# Altium footprint library Diod.PcbLib: 14 footprints
Each footprint in its own frame and in the unit in brackets; x right, y up, seen from the top. Pads: shape width x height; smd on the part's side, far side on the other; paste and mask are expansions set on the pad; w line width, h text height; cw(c..) or ccw(c..) is an arc to the next point about the centre after c.
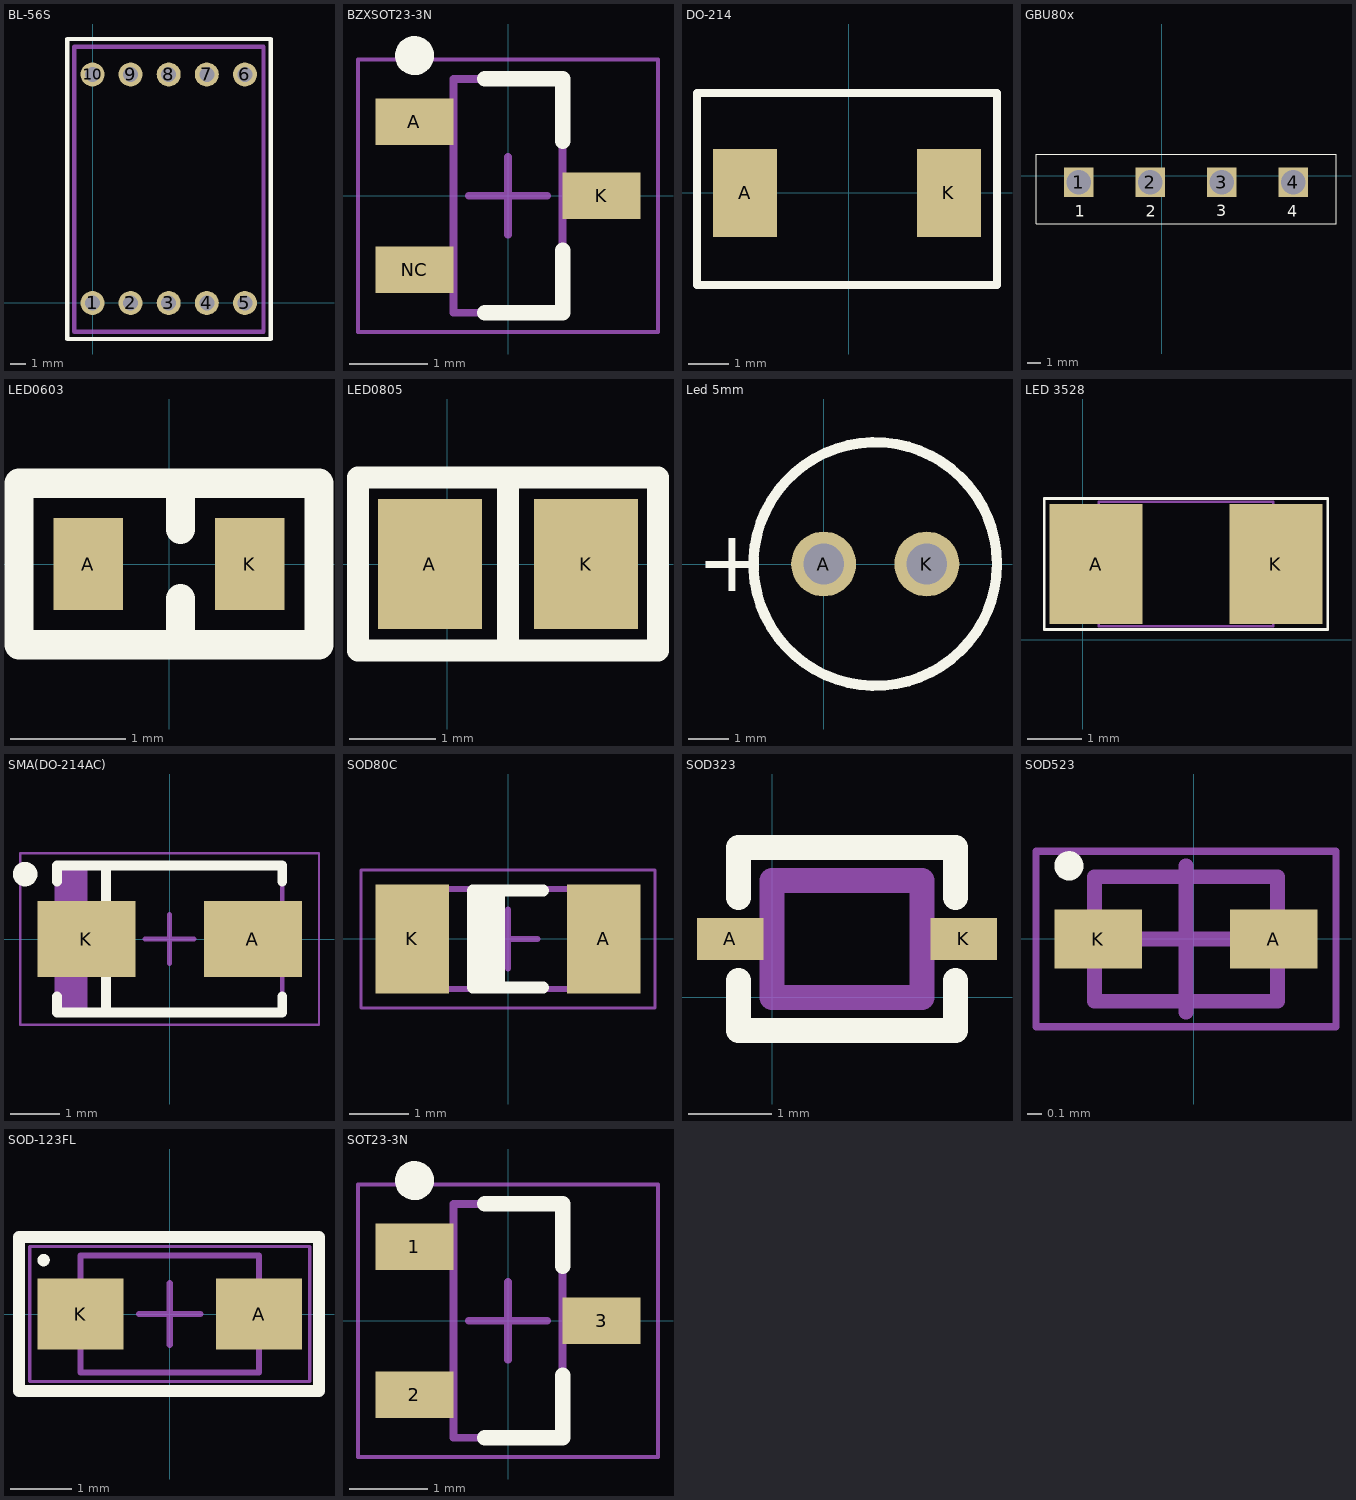
[diagram p0: the footprints below, top view; thin cyan lines are the x and y axes]

## BL-56S [mm]
pads (10):
  round 1.6 hole 1: 1(0,0) 2(2.54,0) 3(5.08,0) 4(7.62,0) 5(10.16,0) 6(10.16,15.24) 7(7.62,15.24) 8(5.08,15.24) 9(2.54,15.24) 10(0,15.24)
Top Overlay:
  lines w0.3: -1.7,-2.4 -1.7,17.6 11.9,17.6 11.9,-2.4 -1.7,-2.4
Mechanical 15:
  lines w0.3: -1.2,-1.9 11.4,-1.9 11.4,17.1 -1.2,17.1 -1.2,-1.9
3D body: height 8, standoff 0, extent -1.2,-1.9 11.4,17.1

## BZXSOT23-3N [mm] "SOT23, 3-Leads, Body 2,90x2,45mm, Pitch 0,95mm, IPC Medium Density"
height 1.1
pads (3):
  rect 1x0.6 smd: A(-1.2,0.95) K(1.2,0) NC(-1.2,-0.95)
Top Overlay:
  circle w0.25: c-1.2,1.8 r0.125
  lines w0.2: -0.3,-1.5 0.7,-1.5 0.7,-0.7 ; -0.3,1.5 0.7,1.5 0.7,0.7
Mechanical 13:
  lines w0.1: -0.7,-1.5 -0.7,1.5 0.7,1.5 0.7,-1.5 -0.7,-1.5
Mechanical 15:
  lines w0.05: -1.925,-1.75 -1.925,1.75 1.925,1.75 1.925,-1.75 -1.925,-1.75
  lines w0.1: -0.5,0 0.5,0 ; 0,-0.5 0,0.5
3D body "SOT95P245X110-3N.step": height 1.1, standoff 0, extent -1.3,-1.5 1.3,1.5

## DO-214 [mm]
pads (2):
  rect 1.6x2.2 smd: A(-2.6,0) K(2.5,0)
Top Overlay:
  lines w0.2: -3.8,-2.3 -3.8,1.3 -3.8,2.5 3.7,2.5 3.7,-2.3 -3.8,-2.3
3D body: height 2.5, standoff 0, extent -2.8,-2 2.8,2

## GBU80x [mm]
pads (4):
  rect 2.2x2.2 hole 1.84: 1(-6.2,-0.49) 2(-0.87,-0.49) 3(4.46,-0.49) 4(9.79,-0.49)
Top Overlay:
  lines w0.01: -9.4,-3.59 12.99,-3.59 12.99,1.61 -9.4,1.61 -9.4,-3.59
  text "3" at 4.04,-3.333 h1.5
  text "4" at 9.36,-3.35 h1.5
  text "2" at -1.191,-3.35 h1.5
  text "1" at -6.49,-3.35 h1.5

## LED0603 [mm]
pads (2):
  rect 0.6x0.8 smd: A(-0.7,0) K(0.7,0)
Top Overlay:
  lines w0.254: 0.1,-0.7 0.1,-0.3 ; 0.1,0.3 0.1,0.7 ; -1.3,-0.7 1.3,-0.7 1.3,0.7 -1.3,0.7 -1.3,-0.7

## LED0805 [mm]
pads (2):
  rect 1.2x1.5 smd: A(-0.2,0) K(1.6,0)
Top Overlay:
  lines w0.254: 0.7,-0.99 0.7,0.87 ; -1.03,-1 2.43,-1 2.43,1 -1.03,1 -1.03,-1
3D body: height 1.1, standoff 0, extent -0.2,-0.75 1.6,0.75

## Led 5mm [mm]
pads (2):
  round 1.6 hole 1: A(0,0) K(2.54,0)
Top Overlay:
  circle w0.254: c1.27,0 r3
  text "+" at -3.121,-0.675 h1.52
Mechanical 13:
3D body: height 7, standoff 6, extent -1.68,-2.95 4.22,2.95
3D body: height 14.6, standoff 7, extent -1.225,-2.5 3.775,2.5
3D body: height 6, standoff -2, extent -0.25,-0.25 0.25,0.25
3D body: height 6, standoff -2, extent 2.29,-0.25 2.79,0.25

## LED 3528 [mm]
pads (2):
  rect 1.7x2.2 smd mask+0.102: A(0.24,1.39) K(3.54,1.39)
Top Overlay:
  lines w0.05: -0.71,0.19 4.49,0.19 4.49,2.59 -0.71,2.59 -0.71,0.19
Mechanical 15:
  lines w0.05: 0.29,0.25 3.49,0.25 3.49,1.66 3.49,2.53 0.29,2.53 0.29,0.25
3D body: height 1.9, standoff 0, extent 0.29,0.25 3.49,2.53

## SMA(DO-214AC) [mm] "Molded Capacitor, 2-Leads, Body 4,30x2,61mm, IPC Medium Density"
height 2.62
pads (2):
  rect 2x1.55 smd: A(1.7,0) K(-1.7,0)
Top Overlay:
  circle w0.25: c-2.95,1.325 r0.125
  lines w0.2: -2.3,-1.175 -2.3,-1.5 2.3,-1.5 2.3,-1.175 ; -2.3,1.175 -2.3,1.5 2.3,1.5 2.3,1.175 ; -1.3,-1.4 -1.3,1.5
Mechanical 13:
  rectangle: -2.3,-1.46 -1.681,1.46
  lines w0.1: -2.3,-1.46 2.3,-1.46 2.3,1.46 -2.3,1.46 -2.3,-1.46
Mechanical 15:
  lines w0.05: -3.05,-1.75 3.05,-1.75 3.05,1.75 -3.05,1.75 -3.05,-1.75
  lines w0.1: -0.5,0 0.5,0 ; 0,-0.5 0,0.5
3D body "SMA(DO-214AC) .step": height 2.62, standoff 0, extent -2.52,-1.46 2.52,1.46

## SOD80C [mm] "MELF Diode, 2-Leads, Body 3,50x1,65mm, IPC Medium Density"
height 1.7
pads (2):
  rect 1.25x1.85 smd: A(1.625,0) K(-1.625,0)
Top Overlay:
  rectangle: -0.6,-0.825 -0.05,0.825
  lines w0.2: 0.6,-0.825 -0.6,-0.825 -0.6,0.825 0.6,0.825
Mechanical 13:
  lines w0.1: -1.85,-0.85 -1.85,0.85 1.85,0.85 1.85,-0.85 -1.85,-0.85
Mechanical 15:
  lines w0.05: -2.5,-1.175 -2.5,1.175 2.5,1.175 2.5,-1.175 -2.5,-1.175
  lines w0.1: -0.5,0 0.5,0 ; 0,-0.5 0,0.5
3D body "SOD80C.step": height 1.65, standoff 0, extent -1.75,-0.819 1.75,0.819

## SOD323 [mm]
pads (2):
  rect 0.8x0.5 smd: A(-0.5,0.7) K(2.3,0.7)
Top Overlay:
  lines w0.3: -0.4,0.2 -0.4,-0.4 2.2,-0.4 2.2,0.2 ; -0.4,1.2 -0.4,1.8 2.2,1.8 2.2,1.2
Mechanical 15:
  lines w0.3: 0,0 1.8,0 1.8,1.4 0,1.4 0,0
3D body: height 1, standoff 0, extent 0,0 1.8,1.4

## SOD523 [mm]
pads (2):
  rect 0.6x0.4 smd: A(0.546,-0.002) K(-0.654,-0.002)
Top Overlay:
  circle w0.1: c-0.854,0.498 r0.05
Mechanical 13:
  lines w0.1: -0.679,-0.427 -0.679,0.423 0.571,0.423 0.571,-0.427 -0.679,-0.427
Mechanical 15:
  lines w0.05: -1.079,-0.602 -1.079,0.598 0.971,0.598 0.971,-0.602 -1.079,-0.602
  lines w0.1: -0.554,-0.002 0.446,-0.002 ; -0.054,-0.502 -0.054,0.498
3D body "SOD523.step": height 0.65, standoff 0, extent -0.679,-0.427 0.571,0.423

## SOD-123FL [mm]
height 1.1
pads (2):
  rect 1.4x1.15 smd: A(1.45,0) K(-1.45,0)
Top Overlay:
  circle w0.1: c-2.05,0.875 r0.05
  lines w0.2: -2.45,-1.25 -2.45,1.25 2.425,1.25 2.425,-1.25 -2.45,-1.25
Mechanical 13:
  lines w0.1: -1.45,-0.95 -1.45,0.95 1.45,0.95 1.45,-0.95 -1.45,-0.95
Mechanical 15:
  lines w0.05: -2.275,-1.1 -2.275,1.1 2.275,1.1 2.275,-1.1 -2.275,-1.1
  lines w0.1: -0.5,0 0.5,0 ; 0,-0.5 0,0.5
3D body "SODFL127P600-8N.step": height 1.1, standoff 0, extent -1.825,-0.95 1.825,0.95

## SOT23-3N [mm] "SOT23, 3-Leads, Body 2,90x2,45mm, Pitch 0,95mm, IPC Medium Density"
height 1.1
pads (3):
  rect 1x0.6 smd: 1(-1.2,0.95) 2(-1.2,-0.95) 3(1.2,0)
Top Overlay:
  circle w0.25: c-1.2,1.8 r0.125
  lines w0.2: -0.3,-1.5 0.7,-1.5 0.7,-0.7 ; -0.3,1.5 0.7,1.5 0.7,0.7
Mechanical 13:
  lines w0.1: -0.7,-1.5 0.7,-1.5 0.7,1.5 -0.7,1.5 -0.7,-1.5
Mechanical 15:
  lines w0.05: -1.925,-1.75 1.925,-1.75 1.925,1.75 -1.925,1.75 -1.925,-1.75
  lines w0.1: -0.5,0 0.5,0 ; 0,-0.5 0,0.5
3D body "SOT95P245X110-3N.step": height 1.1, standoff 0, extent -1.3,-1.5 1.3,1.5